# Altium integrated library Linear Technology Power Management LDO Linear Regulators.IntLib: 2339 symbols (part 1 of 131)
Pins are listed as number, name and electrical type; pins without a type are passive.

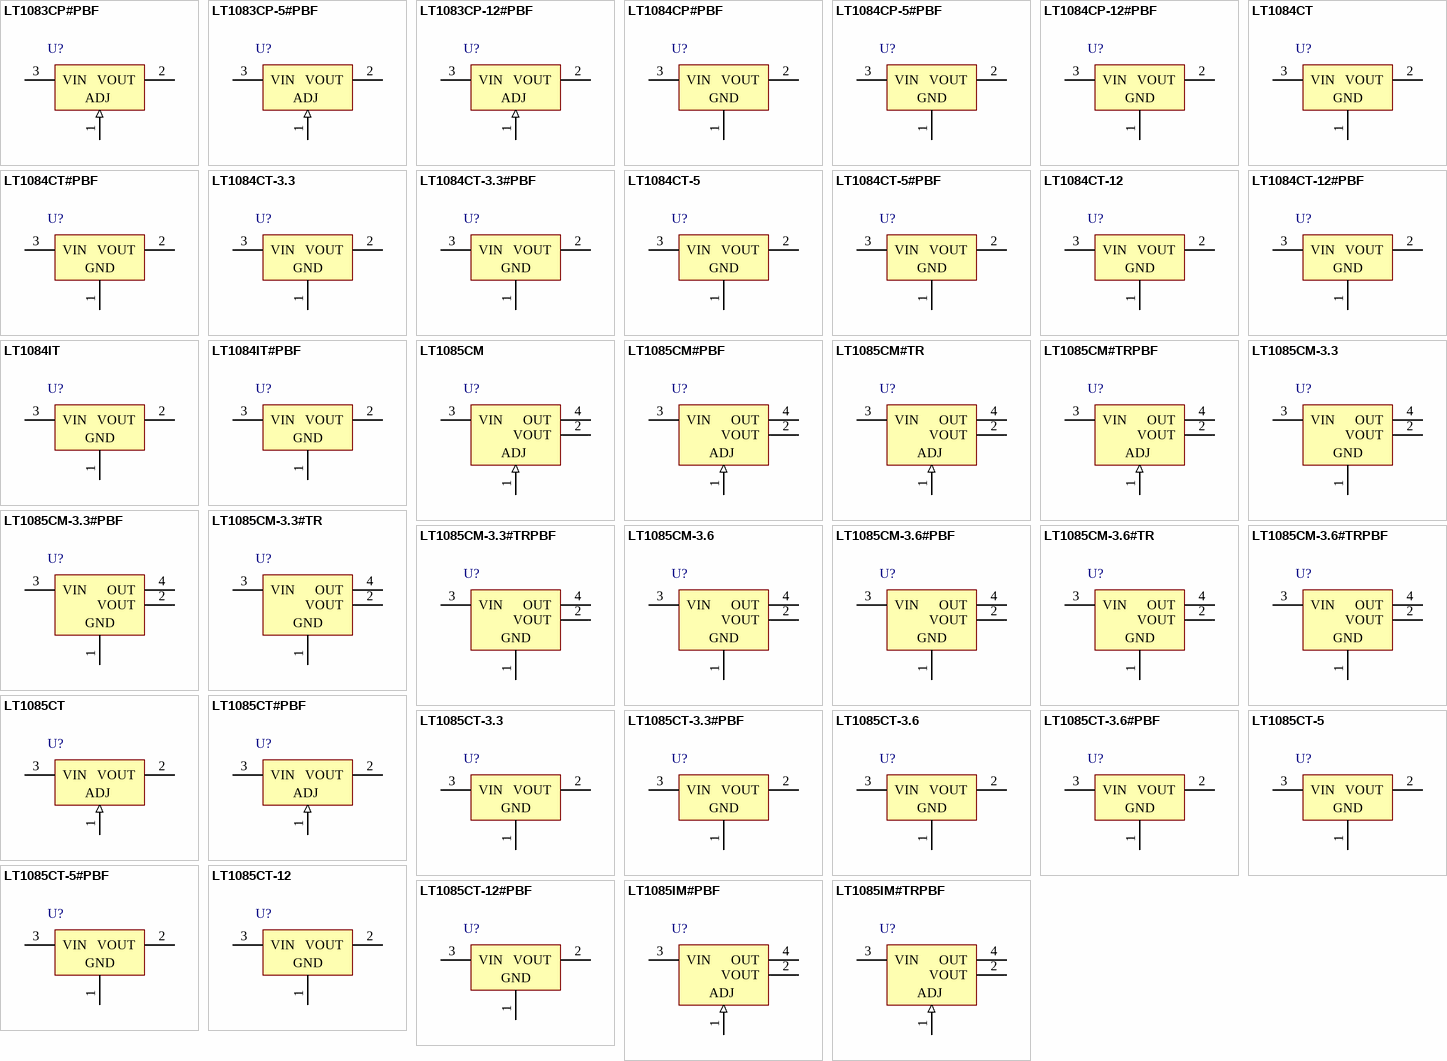
[diagram p0: symbols LT1083CP#PBF to LT1085IM#TRPBF]

## LT1083CP#PBF
designator U?
7.5 A Low Dropout Positive Regulator, 2.55 to 30 V Vin, Adjustable Vout, 3-pin FM (P-3), 0 to 150 degC, Pb-Free; Manufacturer: Linear Technology; PartNumber: LT1083CP#PBF; Discrete Pass Element: no; Dropout Voltage(V): 1.3; Iout(mA): 7500; Isupply(mA): 5; Number of Outputs: 1; Output Voltage: Adj; Vin Max(V): 30; Vin Min(V): 2.55; Vout Max(V): 28.5; Vout Min(V): 1.25; DatasheetVersion: Rev. G; PackageVersion: Rev. A, 06/2012; PackageReference: P-3; PackageDescription: 3-Pin Plastic TO-3P, Body 16.005 x 5.005 mm, Pitch 5.46 mm; Supplier 1: Digi-Key; Supplier Part Number 1: LT1083CP#PBF-ND; Supplier 2: Farnell; Supplier Part Number 2: 9559728; Supplier 3: Newark; Supplier Part Number 3: 57M1484; RoHS: TRUE; Mounting Technology: Through Hole; ComponentLink1Description: Manufacturer URL; ComponentLink1URL: http://www.linear.com/; ComponentLink2Description: Datasheet; ComponentLink2URL: http://cds.linear.com/docs/en/datasheet/108345fg.pdf; ComponentLink3Description: Package Specification; ComponentLink3URL: http://cds.linear.com/docs/en/packaging/P3(TO-3P)%2005-08-1450%20Rev%20A.pdf
footprint LT-P-3-S-TO-247 (FM, 3-Leads, Body 16.3x5.3mm, Pitch 5.46mm)
pins: 1 ADJ (in), 2 VOUT (power), 3 VIN (power)

## LT1083CP-5#PBF
designator U?
7.5 A Low Dropout Positive Regulator, 6 to 25 V Vin, 5 V Vout, 3-pin FM (P-3), 0 to 150 degC, Pb-Free; Manufacturer: Linear Technology; PartNumber: LT1083CP-5#PBF; Discrete Pass Element: no; Dropout Voltage(V): 1.3; Iout(mA): 7500; Isupply(mA): 5; Number of Outputs: 1; Output Voltage: 5 V; Vin Max(V): 25; Vin Min(V): 6; DatasheetVersion: Rev. G; PackageVersion: Rev. A, 06/2012; PackageReference: P-3; PackageDescription: 3-Pin Plastic TO-3P, Body 16.005 x 5.005 mm, Pitch 5.46 mm; Supplier 1: Digi-Key; Supplier Part Number 1: LT1083CP-5#PBF-ND; Supplier 2: Farnell; Supplier Part Number 2: 1273558; Supplier 3: Newark; Supplier Part Number 3: 57M1483; RoHS: TRUE; Vout Max(V): 5; Vout Min(V): 5; Mounting Technology: Through Hole; ComponentLink1Description: Manufacturer URL; ComponentLink1URL: http://www.linear.com/; ComponentLink2Description: Datasheet; ComponentLink2URL: http://cds.linear.com/docs/en/datasheet/108345fg.pdf; ComponentLink3Description: Package Specification; ComponentLink3URL: http://cds.linear.com/docs/en/packaging/P3(TO-3P)%2005-08-1450%20Rev%20A.pdf
footprint LT-P-3-S-TO-247 (FM, 3-Leads, Body 16.3x5.3mm, Pitch 5.46mm)
pins: 1 ADJ (in), 2 VOUT (power), 3 VIN (power)

## LT1083CP-12#PBF
designator U?
7.5 A Low Dropout Positive Regulator, 6 to 25 V Vin, 12 V Vout, 3-pin FM (P-3), 0 to 150 degC, Pb-Free; Manufacturer: Linear Technology; PartNumber: LT1083CP-12#PBF; Discrete Pass Element: no; Dropout Voltage(V): 1.3; Iout(mA): 7500; Isupply(mA): 5; Number of Outputs: 1; Output Voltage: 12 V; Vin Max(V): 25; Vin Min(V): 6; Vout Max(V): 12; DatasheetVersion: Rev. G; PackageVersion: Rev. A, 06/2012; PackageReference: P-3; PackageDescription: 3-Pin Plastic TO-3P, Body 16.005 x 5.005 mm, Pitch 5.46 mm; Supplier 1: Digi-Key; Supplier Part Number 1: LT1083CP-12#PBF-ND; Supplier 2: Newark; Supplier Part Number 2: 57M1481; RoHS: TRUE; Vout Min(V): 12; Mounting Technology: Through Hole; ComponentLink1Description: Manufacturer URL; ComponentLink1URL: http://www.linear.com/; ComponentLink2Description: Datasheet; ComponentLink2URL: http://cds.linear.com/docs/en/datasheet/108345fg.pdf; ComponentLink3Description: Package Specification; ComponentLink3URL: http://cds.linear.com/docs/en/packaging/P3(TO-3P)%2005-08-1450%20Rev%20A.pdf
footprint LT-P-3-S-TO-247 (FM, 3-Leads, Body 16.3x5.3mm, Pitch 5.46mm)
pins: 1 ADJ (in), 2 VOUT (power), 3 VIN (power)

## LT1084CP#PBF
designator U?
5 A Low Dropout Positive Regulator, 2.55 to 30 V Vin, Adjustable Vout, 3-pin FM (P-3), 0 to 150 degC, Pb-Free; Manufacturer: Linear Technology; PartNumber: LT1084CP#PBF; Discrete Pass Element: no; Dropout Voltage(V): 1.3; Iout(mA): 5000; Isupply(mA): 5; Number of Outputs: 1; Output Voltage: Adj; PSRR(dB): 75; Vin Max(V): 30; Vin Min(V): 2.55; Vout Max(V): 28.5; Vout Min(V): 1.25; DatasheetVersion: Rev. D; PackageVersion: Rev. A, 06/2012; PackageReference: P-3; PackageDescription: 3-Pin Plastic TO-3P, Body 16.005 x 5.005 mm, Pitch 5.46 mm; Supplier 1: Digi-Key; Supplier Part Number 1: LT1084CP#PBF-ND; Supplier 2: Farnell; Supplier Part Number 2: 1273559; Supplier 3: Newark; Supplier Part Number 3: 57M1490; RoHS: TRUE; Mounting Technology: Through Hole; ComponentLink1Description: Manufacturer URL; ComponentLink1URL: http://www.linear.com/; ComponentLink2Description: Datasheet; ComponentLink2URL: http://cds.linear.com/docs/en/datasheet/1083ffd.pdf; ComponentLink3Description: Package Specification; ComponentLink3URL: http://cds.linear.com/docs/en/packaging/P3(TO-3P)%2005-08-1450%20Rev%20A.pdf
footprint LT-P-3-S-TO-247 (FM, 3-Leads, Body 16.3x5.3mm, Pitch 5.46mm)
pins: 1 GND (power), 2 VOUT (power), 3 VIN (power)

## LT1084CP-5#PBF
designator U?
5 A Low Dropout Positive Regulator, 2.55 to 30 V Vin, 5 V Vout, 3-pin FM (P-3), 0 to 125 degC, Pb-Free; Manufacturer: Linear Technology; PartNumber: LT1084CP-5#PBF; Discrete Pass Element: no; Dropout Voltage(V): 1.3; Iout(mA): 5000; Isupply(mA): 5; Number of Outputs: 1; Output Voltage: 5 V; PSRR(dB): 68; Vin Max(V): 30; Vin Min(V): 2.55; DatasheetVersion: Rev. D; PackageVersion: Rev. A, 06/2012; PackageReference: P-3; PackageDescription: 3-Pin Plastic TO-3P, Body 16.005 x 5.005 mm, Pitch 5.46 mm; Supplier 1: Digi-Key; Supplier Part Number 1: LT1084CP-5#PBF-ND; Supplier 2: Farnell; Supplier Part Number 2: 2295195; Supplier 3: Newark; Supplier Part Number 3: 57M1489; RoHS: TRUE; Mounting Technology: Through Hole; ComponentLink1Description: Manufacturer URL; ComponentLink1URL: http://www.linear.com/; ComponentLink2Description: Datasheet; ComponentLink2URL: http://cds.linear.com/docs/en/datasheet/1083ffd.pdf; ComponentLink3Description: Package Specification; ComponentLink3URL: http://cds.linear.com/docs/en/packaging/P3(TO-3P)%2005-08-1450%20Rev%20A.pdf
footprint LT-P-3-S-TO-247 (FM, 3-Leads, Body 16.3x5.3mm, Pitch 5.46mm)
pins: 1 GND (power), 2 VOUT (power), 3 VIN (power)

## LT1084CP-12#PBF
designator U?
5 A Low Dropout Positive Regulator, 2.55 to 30 V Vin, 12 V Vout, 3-pin FM (P-3), 0 to 150 degC, Pb-Free; Manufacturer: Linear Technology; PartNumber: LT1084CP-12#PBF; Discrete Pass Element: no; Dropout Voltage(V): 1.3; Iout(mA): 5000; Isupply(mA): 5; Number of Outputs: 1; Output Voltage: 12 V; PSRR(dB): 60; Vin Max(V): 30; Vin Min(V): 2.55; DatasheetVersion: Rev. D; PackageVersion: Rev. A, 06/2012; PackageReference: P-3; PackageDescription: 3-Pin Plastic TO-3P, Body 16.005 x 5.005 mm, Pitch 5.46 mm; Supplier 1: Digi-Key; Supplier Part Number 1: LT1084CP-12#PBF-ND; Supplier 2: Newark; Supplier Part Number 2: 57M1487; RoHS: TRUE; Mounting Technology: Through Hole; ComponentLink1Description: Manufacturer URL; ComponentLink1URL: http://www.linear.com/; ComponentLink2Description: Datasheet; ComponentLink2URL: http://cds.linear.com/docs/en/datasheet/1083ffd.pdf; ComponentLink3Description: Package Specification; ComponentLink3URL: http://cds.linear.com/docs/en/packaging/P3(TO-3P)%2005-08-1450%20Rev%20A.pdf
footprint LT-P-3-S-TO-247 (FM, 3-Leads, Body 16.3x5.3mm, Pitch 5.46mm)
pins: 1 GND (power), 2 VOUT (power), 3 VIN (power)

## LT1084CT
designator U?
5 A Low Dropout Positive Regulator, 2.55 to 30 V Vin, Adjustable Vout, 3-pin FM (T-3), 0 to 150 degC; Manufacturer: Linear Technology; PartNumber: LT1084CT; Discrete Pass Element: no; Dropout Voltage(V): 1.3; Iout(mA): 5000; Isupply(mA): 5; Number of Outputs: 1; Output Voltage: Adj; PSRR(dB): 75; Vin Max(V): 30; Vin Min(V): 2.55; Vout Max(V): 28.5; Vout Min(V): 1.25; DatasheetVersion: Rev. D; PackageVersion: Jun-10; PackageReference: T-3; PackageDescription: 3-Pin Plastic TO-220, Body 10.2235 x 4.3815 mm, Pitch 2.54 mm; Supplier 1: Digi-Key; Supplier Part Number 1: LT1084CT-ND; Supplier 2: Newark; Supplier Part Number 2: 57M1491; RoHS: FALSE; Mounting Technology: Through Hole; ComponentLink1Description: Manufacturer URL; ComponentLink1URL: http://www.linear.com/; ComponentLink2Description: Datasheet; ComponentLink2URL: http://cds.linear.com/docs/en/datasheet/1083ffd.pdf; ComponentLink3Description: Package Specification; ComponentLink3URL: http://cds.linear.com/docs/en/packaging/TO-220_3_05-08-1420.pdf
footprint LT-T-3 (T, 3-Leads, Body 10.55x4.6mm, Pitch 2.54mm)
pins: 1 GND (power), 2 VOUT (power), 3 VIN (power)

## LT1084CT#PBF
designator U?
5 A Low Dropout Positive Regulator, 2.55 to 30 V Vin, Adjustable Vout, 3-pin FM (T-3), 0 to 150 degC, Pb-Free; Manufacturer: Linear Technology; PartNumber: LT1084CT#PBF; Discrete Pass Element: no; Dropout Voltage(V): 1.3; Iout(mA): 5000; Isupply(mA): 5; Number of Outputs: 1; Output Voltage: Adj; PSRR(dB): 75; Vin Max(V): 30; Vin Min(V): 2.55; Vout Max(V): 28.5; Vout Min(V): 1.25; DatasheetVersion: Rev. D; PackageVersion: Jun-10; PackageReference: T-3; PackageDescription: 3-Pin Plastic TO-220, Body 10.2235 x 4.3815 mm, Pitch 2.54 mm; Supplier 1: Digi-Key; Supplier Part Number 1: LT1084CT#PBF-ND; Supplier 2: Farnell; Supplier Part Number 2: 9559744; Supplier 3: Newark; Supplier Part Number 3: 57M1498; RoHS: TRUE; Mounting Technology: Through Hole; ComponentLink1Description: Manufacturer URL; ComponentLink1URL: http://www.linear.com/; ComponentLink2Description: Datasheet; ComponentLink2URL: http://cds.linear.com/docs/en/datasheet/1083ffd.pdf; ComponentLink3Description: Package Specification; ComponentLink3URL: http://cds.linear.com/docs/en/packaging/TO-220_3_05-08-1420.pdf
footprint LT-T-3 (T, 3-Leads, Body 10.55x4.6mm, Pitch 2.54mm)
pins: 1 GND (power), 2 VOUT (power), 3 VIN (power)

## LT1084CT-3.3
designator U?
5 A Low Dropout Positive Regulator, 2.55 to 30 V Vin, 3.3 V Vout, 3-pin FM (T-3), 0 to 150 degC; Manufacturer: Linear Technology; PartNumber: LT1084CT-3.3; Discrete Pass Element: no; Dropout Voltage(V): 1.3; Iout(mA): 5000; Isupply(mA): 5; Number of Outputs: 1; Output Voltage: 3.3 V; PSRR(dB): 72; Vin Max(V): 30; Vin Min(V): 2.55; DatasheetVersion: Rev. D; PackageVersion: Jun-10; PackageReference: T-3; PackageDescription: 3-Pin Plastic TO-220, Body 10.2235 x 4.3815 mm, Pitch 2.54 mm; Supplier 1: Digi-Key; Supplier Part Number 1: LT1084CT-3.3-ND; Supplier 2: Newark; Supplier Part Number 2: 57M1494; RoHS: FALSE; Mounting Technology: Through Hole; ComponentLink1Description: Manufacturer URL; ComponentLink1URL: http://www.linear.com/; ComponentLink2Description: Datasheet; ComponentLink2URL: http://cds.linear.com/docs/en/datasheet/1083ffd.pdf; ComponentLink3Description: Package Specification; ComponentLink3URL: http://cds.linear.com/docs/en/packaging/TO-220_3_05-08-1420.pdf
footprint LT-T-3 (T, 3-Leads, Body 10.55x4.6mm, Pitch 2.54mm)
pins: 1 GND (power), 2 VOUT (power), 3 VIN (power)

## LT1084CT-3.3#PBF
designator U?
5 A Low Dropout Positive Regulator, 2.55 to 30 V Vin, 3.3 V Vout, 3-pin FM (T-3), 0 to 150 degC, Pb-Free; Manufacturer: Linear Technology; PartNumber: LT1084CT-3.3#PBF; Discrete Pass Element: no; Dropout Voltage(V): 1.3; Iout(mA): 5000; Isupply(mA): 5; Number of Outputs: 1; Output Voltage: 3.3 V; PSRR(dB): 72; Vin Max(V): 30; Vin Min(V): 2.55; DatasheetVersion: Rev. D; PackageVersion: Jun-10; PackageReference: T-3; PackageDescription: 3-Pin Plastic TO-220, Body 10.2235 x 4.3815 mm, Pitch 2.54 mm; Supplier 1: Digi-Key; Supplier Part Number 1: LT1084CT-3.3#PBF-ND; Supplier 2: Newark; Supplier Part Number 2: 57M1495; RoHS: TRUE; Mounting Technology: Through Hole; ComponentLink1Description: Manufacturer URL; ComponentLink1URL: http://www.linear.com/; ComponentLink2Description: Datasheet; ComponentLink2URL: http://cds.linear.com/docs/en/datasheet/1083ffd.pdf; ComponentLink3Description: Package Specification; ComponentLink3URL: http://cds.linear.com/docs/en/packaging/TO-220_3_05-08-1420.pdf
footprint LT-T-3 (T, 3-Leads, Body 10.55x4.6mm, Pitch 2.54mm)
pins: 1 GND (power), 2 VOUT (power), 3 VIN (power)

## LT1084CT-5
designator U?
5 A Low Dropout Positive Regulator, 2.55 to 30 V Vin, 5 V Vout, 3-pin FM (T-3), 0 to 150 degC; Manufacturer: Linear Technology; PartNumber: LT1084CT-5; Discrete Pass Element: no; Dropout Voltage(V): 1.3; Iout(mA): 5000; Isupply(mA): 5; Number of Outputs: 1; Output Voltage: 5 V; PSRR(dB): 68; Vin Max(V): 30; Vin Min(V): 2.55; DatasheetVersion: Rev. D; PackageVersion: Jun-10; PackageReference: T-3; PackageDescription: 3-Pin Plastic TO-220, Body 10.2235 x 4.3815 mm, Pitch 2.54 mm; Supplier 1: Digi-Key; Supplier Part Number 1: LT1084CT-5-ND; RoHS: FALSE; Mounting Technology: Through Hole; ComponentLink1Description: Manufacturer URL; ComponentLink1URL: http://www.linear.com/; ComponentLink2Description: Datasheet; ComponentLink2URL: http://cds.linear.com/docs/en/datasheet/1083ffd.pdf; ComponentLink3Description: Package Specification; ComponentLink3URL: http://cds.linear.com/docs/en/packaging/TO-220_3_05-08-1420.pdf
footprint LT-T-3 (T, 3-Leads, Body 10.55x4.6mm, Pitch 2.54mm)
pins: 1 GND (power), 2 VOUT (power), 3 VIN (power)

## LT1084CT-5#PBF
designator U?
5 A Low Dropout Positive Regulator, 2.55 to 30 V Vin, 5 V Vout, 3-pin FM (T-3), 0 to 150 degC, Pb-Free; Manufacturer: Linear Technology; PartNumber: LT1084CT-5#PBF; Discrete Pass Element: no; Dropout Voltage(V): 1.3; Iout(mA): 5000; Isupply(mA): 5; Number of Outputs: 1; Output Voltage: 5 V; PSRR(dB): 68; Vin Max(V): 30; Vin Min(V): 2.55; DatasheetVersion: Rev. D; PackageVersion: Jun-10; PackageReference: T-3; PackageDescription: 3-Pin Plastic TO-220, Body 10.2235 x 4.3815 mm, Pitch 2.54 mm; Supplier 1: Digi-Key; Supplier Part Number 1: LT1084CT-5#PBF-ND; Supplier 2: Farnell; Supplier Part Number 2: 9559787; Supplier 3: Newark; Supplier Part Number 3: 57M1497; RoHS: TRUE; Mounting Technology: Through Hole; ComponentLink1Description: Manufacturer URL; ComponentLink1URL: http://www.linear.com/; ComponentLink2Description: Datasheet; ComponentLink2URL: http://cds.linear.com/docs/en/datasheet/1083ffd.pdf; ComponentLink3Description: Package Specification; ComponentLink3URL: http://cds.linear.com/docs/en/packaging/TO-220_3_05-08-1420.pdf
footprint LT-T-3 (T, 3-Leads, Body 10.55x4.6mm, Pitch 2.54mm)
pins: 1 GND (power), 2 VOUT (power), 3 VIN (power)

## LT1084CT-12
designator U?
5 A Low Dropout Positive Regulator, 2.55 to 30 V Vin, 12 V Vout, 3-pin FM (T-3), 0 to 150 degC; Manufacturer: Linear Technology; PartNumber: LT1084CT-12; Discrete Pass Element: no; Dropout Voltage(V): 1.3; Iout(mA): 5000; Isupply(mA): 5; Number of Outputs: 1; Output Voltage: 12 V; PSRR(dB): 60; Vin Max(V): 30; Vin Min(V): 2.55; DatasheetVersion: Rev. D; PackageVersion: Jun-10; PackageReference: T-3; PackageDescription: 3-Pin Plastic TO-220, Body 10.2235 x 4.3815 mm, Pitch 2.54 mm; Supplier 1: Digi-Key; Supplier Part Number 1: LT1084CT-12-ND; RoHS: FALSE; Mounting Technology: Through Hole; ComponentLink1Description: Manufacturer URL; ComponentLink1URL: http://www.linear.com/; ComponentLink2Description: Datasheet; ComponentLink2URL: http://cds.linear.com/docs/en/datasheet/1083ffd.pdf; ComponentLink3Description: Package Specification; ComponentLink3URL: http://cds.linear.com/docs/en/packaging/TO-220_3_05-08-1420.pdf
footprint LT-T-3 (T, 3-Leads, Body 10.55x4.6mm, Pitch 2.54mm)
pins: 1 GND (power), 2 VOUT (power), 3 VIN (power)

## LT1084CT-12#PBF
designator U?
5 A Low Dropout Positive Regulator, 2.55 to 30 V Vin, 12 V Vout, 3-pin FM (T-3), 0 to 150 degC, Pb-Free; Manufacturer: Linear Technology; PartNumber: LT1084CT-12#PBF; Discrete Pass Element: no; Dropout Voltage(V): 1.3; Iout(mA): 5000; Isupply(mA): 5; Number of Outputs: 1; Output Voltage: 12 V; PSRR(dB): 60; Vin Max(V): 30; Vin Min(V): 2.55; DatasheetVersion: Rev. D; PackageVersion: Jun-10; PackageReference: T-3; PackageDescription: 3-Pin Plastic TO-220, Body 10.2235 x 4.3815 mm, Pitch 2.54 mm; Supplier 1: Digi-Key; Supplier Part Number 1: LT1084CT-12#PBF-ND; Supplier 2: Farnell; Supplier Part Number 2: 9559760; Supplier 3: Newark; Supplier Part Number 3: 57M1493; RoHS: TRUE; Mounting Technology: Through Hole; ComponentLink1Description: Manufacturer URL; ComponentLink1URL: http://www.linear.com/; ComponentLink2Description: Datasheet; ComponentLink2URL: http://cds.linear.com/docs/en/datasheet/1083ffd.pdf; ComponentLink3Description: Package Specification; ComponentLink3URL: http://cds.linear.com/docs/en/packaging/TO-220_3_05-08-1420.pdf
footprint LT-T-3 (T, 3-Leads, Body 10.55x4.6mm, Pitch 2.54mm)
pins: 1 GND (power), 2 VOUT (power), 3 VIN (power)

## LT1084IT
designator U?
5 A Low Dropout Positive Regulator, 2.55 to 30 V Vin, Adjustable Vout, 3-pin FM (T-3), -40 to 150 degC; Manufacturer: Linear Technology; PartNumber: LT1084IT; Discrete Pass Element: no; Dropout Voltage(V): 1.3; Iout(mA): 5000; Isupply(mA): 5; Number of Outputs: 1; Output Voltage: Adj; PSRR(dB): 75; Vin Max(V): 30; Vin Min(V): 2.55; Vout Max(V): 28.5; Vout Min(V): 1.25; DatasheetVersion: Rev. D; PackageVersion: Jun-10; PackageReference: T-3; PackageDescription: 3-Pin Plastic TO-220, Body 10.2235 x 4.3815 mm, Pitch 2.54 mm; Supplier 1: Digi-Key; Supplier Part Number 1: LT1084IT-ND; RoHS: FALSE; Mounting Technology: Through Hole; ComponentLink1Description: Manufacturer URL; ComponentLink1URL: http://www.linear.com/; ComponentLink2Description: Datasheet; ComponentLink2URL: http://cds.linear.com/docs/en/datasheet/1083ffd.pdf; ComponentLink3Description: Package Specification; ComponentLink3URL: http://cds.linear.com/docs/en/packaging/TO-220_3_05-08-1420.pdf
footprint LT-T-3 (T, 3-Leads, Body 10.55x4.6mm, Pitch 2.54mm)
pins: 1 GND (power), 2 VOUT (power), 3 VIN (power)

## LT1084IT#PBF
designator U?
5 A Low Dropout Positive Regulator, 2.55 to 30 V Vin, Adjustable Vout, 3-pin FM (T-3), -40 to 150 degC, Pb-Free; Manufacturer: Linear Technology; PartNumber: LT1084IT#PBF; Discrete Pass Element: no; Dropout Voltage(V): 1.3; Iout(mA): 5000; Isupply(mA): 5; Number of Outputs: 1; Output Voltage: Adj; PSRR(dB): 75; Vin Max(V): 30; Vin Min(V): 2.55; Vout Max(V): 28.5; Vout Min(V): 1.25; DatasheetVersion: Rev. D; PackageVersion: Jun-10; PackageReference: T-3; PackageDescription: 3-Pin Plastic TO-220, Body 10.2235 x 4.3815 mm, Pitch 2.54 mm; Supplier 1: Digi-Key; Supplier Part Number 1: LT1084IT#PBF-ND; Supplier 2: Farnell; Supplier Part Number 2: 1663349; Supplier 3: Newark; Supplier Part Number 3: 57M1500; RoHS: TRUE; Mounting Technology: Through Hole; ComponentLink1Description: Manufacturer URL; ComponentLink1URL: http://www.linear.com/; ComponentLink2Description: Datasheet; ComponentLink2URL: http://cds.linear.com/docs/en/datasheet/1083ffd.pdf; ComponentLink3Description: Package Specification; ComponentLink3URL: http://cds.linear.com/docs/en/packaging/TO-220_3_05-08-1420.pdf
footprint LT-T-3 (T, 3-Leads, Body 10.55x4.6mm, Pitch 2.54mm)
pins: 1 GND (power), 2 VOUT (power), 3 VIN (power)

## LT1085CM
designator U?
3 A Low Dropout Positive Regulator, 2.55 to 30 V Vin, Adjustable Vout, 3-pin DPAK (M-3), 0 to 150 degC; Manufacturer: Linear Technology; PartNumber: LT1085CM; Discrete Pass Element: no; Dropout Voltage(V): 1.3; Iout(mA): 3000; Isupply(mA): 5; Number of Outputs: 1; Output Voltage: Adj; PSRR(dB): 75; Vin Max(V): 30; Vin Min(V): 2.55; Vout Max(V): 28.5; Vout Min(V): 1.25; DatasheetVersion: Rev. G; PackageVersion: Rev. F, 05/2012; PackageReference: M-3; PackageDescription: 3-Pin Plastic DD Pak, Body 10.2235 x 8.89 mm, Pitch 2.54 mm; Supplier 1: Digi-Key; Supplier Part Number 1: LT1085CM-ND; Supplier 2: Newark; Supplier Part Number 2: 57M1501; RoHS: FALSE; Mounting Technology: Surface Mount; ComponentLink1Description: Manufacturer URL; ComponentLink1URL: http://www.linear.com/; ComponentLink2Description: Datasheet; ComponentLink2URL: http://cds.linear.com/docs/en/datasheet/108345fg.pdf; ComponentLink3Description: Package Specification; ComponentLink3URL: http://cds.linear.com/docs/en/packaging/05081460_F_M.pdf
footprint LT-M-3_N (DPAK, 3-Leads, Body 10.55x9.4mm, Pitch 2.54mm, IPC Medium Density)
footprint LT-M-3_L (DPAK, 3-Leads, Body 10.55x9.4mm, Pitch 2.54mm, IPC High Density)
footprint LT-M-3_M (DPAK, 3-Leads, Body 10.55x9.4mm, Pitch 2.54mm, IPC Low Density)
pins: 1 ADJ (in), 2 VOUT (power), 3 VIN (power), 4 OUT (power)

## LT1085CM#PBF
designator U?
3 A Low Dropout Positive Regulator, 2.55 to 30 V Vin, Adjustable Vout, 3-pin DPAK (M-3), 0 to 150 degC, Pb-Free; Manufacturer: Linear Technology; PartNumber: LT1085CM#PBF; Discrete Pass Element: no; Dropout Voltage(V): 1.3; Iout(mA): 3000; Isupply(mA): 5; Number of Outputs: 1; Output Voltage: Adj; PSRR(dB): 75; Vin Max(V): 30; Vin Min(V): 2.55; Vout Max(V): 28.5; Vout Min(V): 1.25; DatasheetVersion: Rev. G; PackageVersion: Rev. F, 05/2012; PackageReference: M-3; PackageDescription: 3-Pin Plastic DD Pak, Body 10.2235 x 8.89 mm, Pitch 2.54 mm; Supplier 1: Digi-Key; Supplier Part Number 1: LT1085CM#PBF-ND; Supplier 2: Farnell; Supplier Part Number 2: 9559795; Supplier 3: Newark; Supplier Part Number 3: 57M1510; RoHS: TRUE; Mounting Technology: Surface Mount; ComponentLink1Description: Manufacturer URL; ComponentLink1URL: http://www.linear.com/; ComponentLink2Description: Datasheet; ComponentLink2URL: http://cds.linear.com/docs/en/datasheet/108345fg.pdf; ComponentLink3Description: Package Specification; ComponentLink3URL: http://cds.linear.com/docs/en/packaging/05081460_F_M.pdf
footprint LT-M-3_N (DPAK, 3-Leads, Body 10.55x9.4mm, Pitch 2.54mm, IPC Medium Density)
footprint LT-M-3_L (DPAK, 3-Leads, Body 10.55x9.4mm, Pitch 2.54mm, IPC High Density)
footprint LT-M-3_M (DPAK, 3-Leads, Body 10.55x9.4mm, Pitch 2.54mm, IPC Low Density)
pins: 1 ADJ (in), 2 VOUT (power), 3 VIN (power), 4 OUT (power)

## LT1085CM#TR
designator U?
3 A Low Dropout Positive Regulator, 2.55 to 30 V Vin, Adjustable Vout, 3-pin DPAK (M-3), 0 to 150 degC, Tape and Reel; Manufacturer: Linear Technology; PartNumber: LT1085CM#TR; Discrete Pass Element: no; Dropout Voltage(V): 1.3; Iout(mA): 3000; Isupply(mA): 5; Number of Outputs: 1; Output Voltage: Adj; PSRR(dB): 75; Vin Max(V): 30; Vin Min(V): 2.55; Vout Max(V): 28.5; Vout Min(V): 1.25; DatasheetVersion: Rev. G; PackageVersion: Rev. F, 05/2012; PackageReference: M-3; PackageDescription: 3-Pin Plastic DD Pak, Body 10.2235 x 8.89 mm, Pitch 2.54 mm; Supplier 1: Digi-Key; Supplier Part Number 1: LT1085CM#TR-ND; Supplier 2: Newark; Supplier Part Number 2: 57M1511; Packing: Tape and Reel; RoHS: FALSE; Mounting Technology: Surface Mount; ComponentLink1Description: Manufacturer URL; ComponentLink1URL: http://www.linear.com/; ComponentLink2Description: Datasheet; ComponentLink2URL: http://cds.linear.com/docs/en/datasheet/108345fg.pdf; ComponentLink3Description: Package Specification; ComponentLink3URL: http://cds.linear.com/docs/en/packaging/05081460_F_M.pdf
footprint LT-M-3_N (DPAK, 3-Leads, Body 10.55x9.4mm, Pitch 2.54mm, IPC Medium Density)
footprint LT-M-3_L (DPAK, 3-Leads, Body 10.55x9.4mm, Pitch 2.54mm, IPC High Density)
footprint LT-M-3_M (DPAK, 3-Leads, Body 10.55x9.4mm, Pitch 2.54mm, IPC Low Density)
pins: 1 ADJ (in), 2 VOUT (power), 3 VIN (power), 4 OUT (power)

## LT1085CM#TRPBF
designator U?
3 A Low Dropout Positive Regulator, 2.55 to 30 V Vin, Adjustable Vout, 3-pin DPAK (M-3), 0 to 150 degC, Pb-Free, Tape and Reel; Manufacturer: Linear Technology; PartNumber: LT1085CM#TRPBF; Discrete Pass Element: no; Dropout Voltage(V): 1.3; Iout(mA): 3000; Isupply(mA): 5; Number of Outputs: 1; Output Voltage: Adj; PSRR(dB): 75; Vin Max(V): 30; Vin Min(V): 2.55; Vout Max(V): 28.5; Vout Min(V): 1.25; DatasheetVersion: Rev. G; PackageVersion: Rev. F, 05/2012; PackageReference: M-3; PackageDescription: 3-Pin Plastic DD Pak, Body 10.2235 x 8.89 mm, Pitch 2.54 mm; Supplier 1: Digi-Key; Supplier Part Number 1: LT1085CM#TRPBF-ND; Supplier 2: Newark; Supplier Part Number 2: 57M1512; Packing: Tape and Reel; RoHS: TRUE; Mounting Technology: Surface Mount; ComponentLink1Description: Manufacturer URL; ComponentLink1URL: http://www.linear.com/; ComponentLink2Description: Datasheet; ComponentLink2URL: http://cds.linear.com/docs/en/datasheet/108345fg.pdf; ComponentLink3Description: Package Specification; ComponentLink3URL: http://cds.linear.com/docs/en/packaging/05081460_F_M.pdf
footprint LT-M-3_N (DPAK, 3-Leads, Body 10.55x9.4mm, Pitch 2.54mm, IPC Medium Density)
footprint LT-M-3_L (DPAK, 3-Leads, Body 10.55x9.4mm, Pitch 2.54mm, IPC High Density)
footprint LT-M-3_M (DPAK, 3-Leads, Body 10.55x9.4mm, Pitch 2.54mm, IPC Low Density)
pins: 1 ADJ (in), 2 VOUT (power), 3 VIN (power), 4 OUT (power)

## LT1085CM-3.3
designator U?
3 A Low Dropout Positive Regulator, 4.3 to 25 V Vin, 3.3 V Vout, 3-pin DPAK (M-3), 0 to 150 degC; Manufacturer: Linear Technology; PartNumber: LT1085CM-3.3; Discrete Pass Element: no; Dropout Voltage(V): 1.3; Iout(mA): 3000; Isupply(mA): 5; Number of Outputs: 1; Output Voltage: 3.3 V; PSRR(dB): 72; Vin Max(V): 25; Vin Min(V): 4.3; DatasheetVersion: Rev. D; PackageVersion: Rev. F, 05/2012; PackageReference: M-3; PackageDescription: 3-Pin Plastic DD Pak, Body 10.2235 x 8.89 mm, Pitch 2.54 mm; Supplier 1: Digi-Key; Supplier Part Number 1: LT1085CM-3.3-ND; RoHS: FALSE; Mounting Technology: Surface Mount; ComponentLink1Description: Manufacturer URL; ComponentLink1URL: http://www.linear.com/; ComponentLink2Description: Datasheet; ComponentLink2URL: http://cds.linear.com/docs/en/datasheet/1083ffd.pdf; ComponentLink3Description: Package Specification; ComponentLink3URL: http://cds.linear.com/docs/en/packaging/05081460_F_M.pdf
footprint LT-M-3_N (DPAK, 3-Leads, Body 10.55x9.4mm, Pitch 2.54mm, IPC Medium Density)
footprint LT-M-3_L (DPAK, 3-Leads, Body 10.55x9.4mm, Pitch 2.54mm, IPC High Density)
footprint LT-M-3_M (DPAK, 3-Leads, Body 10.55x9.4mm, Pitch 2.54mm, IPC Low Density)
pins: 1 GND (power), 2 VOUT (power), 3 VIN (power), 4 OUT (power)

## LT1085CM-3.3#PBF
designator U?
3 A Low Dropout Positive Regulator, 4.3 to 25 V Vin, 3.3 V Vout, 3-pin DPAK (M-3), 0 to 150 degC, Pb-Free; Manufacturer: Linear Technology; PartNumber: LT1085CM-3.3#PBF; Discrete Pass Element: no; Dropout Voltage(V): 1.3; Iout(mA): 3000; Isupply(mA): 5; Number of Outputs: 1; Output Voltage: 3.3 V; PSRR(dB): 72; Vin Max(V): 25; Vin Min(V): 4.3; DatasheetVersion: Rev. D; PackageVersion: Rev. F, 05/2012; PackageReference: M-3; PackageDescription: 3-Pin Plastic DD Pak, Body 10.2235 x 8.89 mm, Pitch 2.54 mm; Supplier 1: Digi-Key; Supplier Part Number 1: LT1085CM-3.3#PBF-ND; Supplier 2: Farnell; Supplier Part Number 2: 1273560; Supplier 3: Newark; Supplier Part Number 3: 57M1503; RoHS: TRUE; Mounting Technology: Surface Mount; ComponentLink1Description: Manufacturer URL; ComponentLink1URL: http://www.linear.com/; ComponentLink2Description: Datasheet; ComponentLink2URL: http://cds.linear.com/docs/en/datasheet/1083ffd.pdf; ComponentLink3Description: Package Specification; ComponentLink3URL: http://cds.linear.com/docs/en/packaging/05081460_F_M.pdf
footprint LT-M-3_N (DPAK, 3-Leads, Body 10.55x9.4mm, Pitch 2.54mm, IPC Medium Density)
footprint LT-M-3_L (DPAK, 3-Leads, Body 10.55x9.4mm, Pitch 2.54mm, IPC High Density)
footprint LT-M-3_M (DPAK, 3-Leads, Body 10.55x9.4mm, Pitch 2.54mm, IPC Low Density)
pins: 1 GND (power), 2 VOUT (power), 3 VIN (power), 4 OUT (power)

## LT1085CM-3.3#TR
designator U?
3 A Low Dropout Positive Regulator, 4.3 to 25 V Vin, 3.3 V Vout, 3-pin DPAK (M-3), 0 to 150 degC, Tape and Reel; Manufacturer: Linear Technology; PartNumber: LT1085CM-3.3#TR; Discrete Pass Element: no; Dropout Voltage(V): 1.3; Iout(mA): 3000; Isupply(mA): 5; Number of Outputs: 1; Output Voltage: 3.3 V; PSRR(dB): 72; Vin Max(V): 25; Vin Min(V): 4.3; DatasheetVersion: Rev. D; PackageVersion: Rev. F, 05/2012; PackageReference: M-3; PackageDescription: 3-Pin Plastic DD Pak, Body 10.2235 x 8.89 mm, Pitch 2.54 mm; Supplier 1: Digi-Key; Supplier Part Number 1: LT1085CM-3.3#TR-ND; Supplier 2: Newark; Supplier Part Number 2: 57M1504; Packing: Tape and Reel; RoHS: FALSE; Mounting Technology: Surface Mount; ComponentLink1Description: Manufacturer URL; ComponentLink1URL: http://www.linear.com/; ComponentLink2Description: Datasheet; ComponentLink2URL: http://cds.linear.com/docs/en/datasheet/1083ffd.pdf; ComponentLink3Description: Package Specification; ComponentLink3URL: http://cds.linear.com/docs/en/packaging/05081460_F_M.pdf
footprint LT-M-3_N (DPAK, 3-Leads, Body 10.55x9.4mm, Pitch 2.54mm, IPC Medium Density)
footprint LT-M-3_L (DPAK, 3-Leads, Body 10.55x9.4mm, Pitch 2.54mm, IPC High Density)
footprint LT-M-3_M (DPAK, 3-Leads, Body 10.55x9.4mm, Pitch 2.54mm, IPC Low Density)
pins: 1 GND (power), 2 VOUT (power), 3 VIN (power), 4 OUT (power)

## LT1085CM-3.3#TRPBF
designator U?
3 A Low Dropout Positive Regulator, 4.3 to 25 V Vin, 3.3 V Vout, 3-pin DPAK (M-3), 0 to 150 degC, Pb-Free, Tape and Reel; Manufacturer: Linear Technology; PartNumber: LT1085CM-3.3#TRPBF; Discrete Pass Element: no; Dropout Voltage(V): 1.3; Iout(mA): 3000; Isupply(mA): 5; Number of Outputs: 1; Output Voltage: 3.3 V; PSRR(dB): 72; Vin Max(V): 25; Vin Min(V): 4.3; DatasheetVersion: Rev. D; PackageVersion: Rev. F, 05/2012; PackageReference: M-3; PackageDescription: 3-Pin Plastic DD Pak, Body 10.2235 x 8.89 mm, Pitch 2.54 mm; Supplier 1: Digi-Key; Supplier Part Number 1: LT1085CM-3.3#TRPBF-ND; Supplier 2: Newark; Supplier Part Number 2: 57M1505; Packing: Tape and Reel; RoHS: TRUE; Mounting Technology: Surface Mount; ComponentLink1Description: Manufacturer URL; ComponentLink1URL: http://www.linear.com/; ComponentLink2Description: Datasheet; ComponentLink2URL: http://cds.linear.com/docs/en/datasheet/1083ffd.pdf; ComponentLink3Description: Package Specification; ComponentLink3URL: http://cds.linear.com/docs/en/packaging/05081460_F_M.pdf
footprint LT-M-3_N (DPAK, 3-Leads, Body 10.55x9.4mm, Pitch 2.54mm, IPC Medium Density)
footprint LT-M-3_L (DPAK, 3-Leads, Body 10.55x9.4mm, Pitch 2.54mm, IPC High Density)
footprint LT-M-3_M (DPAK, 3-Leads, Body 10.55x9.4mm, Pitch 2.54mm, IPC Low Density)
pins: 1 GND (power), 2 VOUT (power), 3 VIN (power), 4 OUT (power)

## LT1085CM-3.6
designator U?
3 A Low Dropout Positive Regulator, 4.3 to 25 V Vin, 3.6 V Vout, 3-pin DPAK (M-3), 0 to 150 degC; Manufacturer: Linear Technology; PartNumber: LT1085CM-3.6; Discrete Pass Element: no; Dropout Voltage(V): 1.3; Iout(mA): 3000; Isupply(mA): 5; Number of Outputs: 1; Output Voltage: 3.6 V; PSRR(dB): 72; Vin Max(V): 25; Vin Min(V): 4.3; DatasheetVersion: Rev. D; PackageVersion: Rev. F, 05/2012; PackageReference: M-3; PackageDescription: 3-Pin Plastic DD Pak, Body 10.2235 x 8.89 mm, Pitch 2.54 mm; Supplier 1: Digi-Key; Supplier Part Number 1: LT1085CM-3.6-ND; Supplier 2: Newark; Supplier Part Number 2: 57M1506; RoHS: FALSE; Mounting Technology: Surface Mount; ComponentLink1Description: Manufacturer URL; ComponentLink1URL: http://www.linear.com/; ComponentLink2Description: Datasheet; ComponentLink2URL: http://cds.linear.com/docs/en/datasheet/1083ffd.pdf; ComponentLink3Description: Package Specification; ComponentLink3URL: http://cds.linear.com/docs/en/packaging/05081460_F_M.pdf
footprint LT-M-3_N (DPAK, 3-Leads, Body 10.55x9.4mm, Pitch 2.54mm, IPC Medium Density)
footprint LT-M-3_L (DPAK, 3-Leads, Body 10.55x9.4mm, Pitch 2.54mm, IPC High Density)
footprint LT-M-3_M (DPAK, 3-Leads, Body 10.55x9.4mm, Pitch 2.54mm, IPC Low Density)
pins: 1 GND (power), 2 VOUT (power), 3 VIN (power), 4 OUT (power)

## LT1085CM-3.6#PBF
designator U?
3 A Low Dropout Positive Regulator, 4.3 to 25 V Vin, 3.6 V Vout, 3-pin DPAK (M-3), 0 to 150 degC, Pb-Free; Manufacturer: Linear Technology; PartNumber: LT1085CM-3.6#PBF; Discrete Pass Element: no; Dropout Voltage(V): 1.3; Iout(mA): 3000; Isupply(mA): 5; Number of Outputs: 1; Output Voltage: 3.6 V; PSRR(dB): 72; Vin Max(V): 25; Vin Min(V): 4.3; DatasheetVersion: Rev. D; PackageVersion: Rev. F, 05/2012; PackageReference: M-3; PackageDescription: 3-Pin Plastic DD Pak, Body 10.2235 x 8.89 mm, Pitch 2.54 mm; Supplier 1: Digi-Key; Supplier Part Number 1: LT1085CM-3.6#PBF-ND; Supplier 2: Newark; Supplier Part Number 2: 57M1507; RoHS: TRUE; Mounting Technology: Surface Mount; ComponentLink1Description: Manufacturer URL; ComponentLink1URL: http://www.linear.com/; ComponentLink2Description: Datasheet; ComponentLink2URL: http://cds.linear.com/docs/en/datasheet/1083ffd.pdf; ComponentLink3Description: Package Specification; ComponentLink3URL: http://cds.linear.com/docs/en/packaging/05081460_F_M.pdf
footprint LT-M-3_N (DPAK, 3-Leads, Body 10.55x9.4mm, Pitch 2.54mm, IPC Medium Density)
footprint LT-M-3_L (DPAK, 3-Leads, Body 10.55x9.4mm, Pitch 2.54mm, IPC High Density)
footprint LT-M-3_M (DPAK, 3-Leads, Body 10.55x9.4mm, Pitch 2.54mm, IPC Low Density)
pins: 1 GND (power), 2 VOUT (power), 3 VIN (power), 4 OUT (power)

## LT1085CM-3.6#TR
designator U?
3 A Low Dropout Positive Regulator, 4.3 to 25 V Vin, 3.6 V Vout, 3-pin DPAK (M-3), 0 to 150 degC, Tape and Reel; Manufacturer: Linear Technology; PartNumber: LT1085CM-3.6#TR; Discrete Pass Element: no; Dropout Voltage(V): 1.3; Iout(mA): 3000; Isupply(mA): 5; Number of Outputs: 1; Output Voltage: 3.6 V; PSRR(dB): 72; Vin Max(V): 25; Vin Min(V): 4.3; DatasheetVersion: Rev. D; PackageVersion: Rev. F, 05/2012; PackageReference: M-3; PackageDescription: 3-Pin Plastic DD Pak, Body 10.2235 x 8.89 mm, Pitch 2.54 mm; Supplier 1: Digi-Key; Supplier Part Number 1: LT1085CM-3.6#TR-ND; Packing: Tape and Reel; RoHS: FALSE; Mounting Technology: Surface Mount; ComponentLink1Description: Manufacturer URL; ComponentLink1URL: http://www.linear.com/; ComponentLink2Description: Datasheet; ComponentLink2URL: http://cds.linear.com/docs/en/datasheet/1083ffd.pdf; ComponentLink3Description: Package Specification; ComponentLink3URL: http://cds.linear.com/docs/en/packaging/05081460_F_M.pdf
footprint LT-M-3_N (DPAK, 3-Leads, Body 10.55x9.4mm, Pitch 2.54mm, IPC Medium Density)
footprint LT-M-3_L (DPAK, 3-Leads, Body 10.55x9.4mm, Pitch 2.54mm, IPC High Density)
footprint LT-M-3_M (DPAK, 3-Leads, Body 10.55x9.4mm, Pitch 2.54mm, IPC Low Density)
pins: 1 GND (power), 2 VOUT (power), 3 VIN (power), 4 OUT (power)

## LT1085CM-3.6#TRPBF
designator U?
3 A Low Dropout Positive Regulator, 4.3 to 25 V Vin, 3.6 V Vout, 3-pin DPAK (M-3), 0 to 150 degC, Pb-Free, Tape and Reel; Manufacturer: Linear Technology; PartNumber: LT1085CM-3.6#TRPBF; Discrete Pass Element: no; Dropout Voltage(V): 1.3; Iout(mA): 3000; Isupply(mA): 5; Number of Outputs: 1; Output Voltage: 3.6 V; PSRR(dB): 72; Vin Max(V): 25; Vin Min(V): 4.3; DatasheetVersion: Rev. D; PackageVersion: Rev. F, 05/2012; PackageReference: M-3; PackageDescription: 3-Pin Plastic DD Pak, Body 10.2235 x 8.89 mm, Pitch 2.54 mm; Supplier 1: Digi-Key; Supplier Part Number 1: LT1085CM-3.6#TRPBF-ND; Packing: Tape and Reel; RoHS: TRUE; Mounting Technology: Surface Mount; ComponentLink1Description: Manufacturer URL; ComponentLink1URL: http://www.linear.com/; ComponentLink2Description: Datasheet; ComponentLink2URL: http://cds.linear.com/docs/en/datasheet/1083ffd.pdf; ComponentLink3Description: Package Specification; ComponentLink3URL: http://cds.linear.com/docs/en/packaging/05081460_F_M.pdf
footprint LT-M-3_N (DPAK, 3-Leads, Body 10.55x9.4mm, Pitch 2.54mm, IPC Medium Density)
footprint LT-M-3_L (DPAK, 3-Leads, Body 10.55x9.4mm, Pitch 2.54mm, IPC High Density)
footprint LT-M-3_M (DPAK, 3-Leads, Body 10.55x9.4mm, Pitch 2.54mm, IPC Low Density)
pins: 1 GND (power), 2 VOUT (power), 3 VIN (power), 4 OUT (power)

## LT1085CT
designator U?
3 A Low Dropout Positive Regulator, 2.55 to 30 V Vin, Adjustable Vout, 3-pin FM (T-3), 0 to 150 degC; Manufacturer: Linear Technology; PartNumber: LT1085CT; Discrete Pass Element: no; Dropout Voltage(V): 1.3; Iout(mA): 3000; Isupply(mA): 5; Number of Outputs: 1; Output Voltage: Adj; PSRR(dB): 75; Vin Max(V): 30; Vin Min(V): 2.55; Vout Max(V): 28.5; Vout Min(V): 1.25; DatasheetVersion: Rev. G; PackageVersion: Jun-10; PackageReference: T-3; PackageDescription: 3-Pin Plastic TO-220, Body 10.2235 x 4.3815 mm, Pitch 2.54 mm; Supplier 1: Digi-Key; Supplier Part Number 1: LT1085CT-ND; Supplier 2: Newark; Supplier Part Number 2: 57M1513; RoHS: FALSE; Mounting Technology: Through Hole; ComponentLink1Description: Manufacturer URL; ComponentLink1URL: http://www.linear.com/; ComponentLink2Description: Datasheet; ComponentLink2URL: http://cds.linear.com/docs/en/datasheet/108345fg.pdf; ComponentLink3Description: Package Specification; ComponentLink3URL: http://cds.linear.com/docs/en/packaging/TO-220_3_05-08-1420.pdf
footprint LT-T-3 (T, 3-Leads, Body 10.55x4.6mm, Pitch 2.54mm)
pins: 1 ADJ (in), 2 VOUT (power), 3 VIN (power)

## LT1085CT#PBF
designator U?
3 A Low Dropout Positive Regulator, 2.55 to 30 V Vin, Adjustable Vout, 3-pin FM (T-3), 0 to 150 degC, Pb-Free; Manufacturer: Linear Technology; PartNumber: LT1085CT#PBF; Discrete Pass Element: no; Dropout Voltage(V): 1.3; Iout(mA): 3000; Isupply(mA): 5; Number of Outputs: 1; Output Voltage: Adj; PSRR(dB): 75; Vin Max(V): 30; Vin Min(V): 2.55; Vout Max(V): 28.5; Vout Min(V): 1.25; DatasheetVersion: Rev. G; PackageVersion: Jun-10; PackageReference: T-3; PackageDescription: 3-Pin Plastic TO-220, Body 10.2235 x 4.3815 mm, Pitch 2.54 mm; Supplier 1: Digi-Key; Supplier Part Number 1: LT1085CT#PBF-ND; Supplier 2: Farnell; Supplier Part Number 2: 9559809; Supplier 3: Farnell; Supplier Part Number 3: 1523871; Supplier 4: Newark; Supplier Part Number 4: 57M1522; RoHS: TRUE; Mounting Technology: Through Hole; ComponentLink1Description: Manufacturer URL; ComponentLink1URL: http://www.linear.com/; ComponentLink2Description: Datasheet; ComponentLink2URL: http://cds.linear.com/docs/en/datasheet/108345fg.pdf; ComponentLink3Description: Package Specification; ComponentLink3URL: http://cds.linear.com/docs/en/packaging/TO-220_3_05-08-1420.pdf
footprint LT-T-3 (T, 3-Leads, Body 10.55x4.6mm, Pitch 2.54mm)
pins: 1 ADJ (in), 2 VOUT (power), 3 VIN (power)

## LT1085CT-3.3
designator U?
3 A Low Dropout Positive Regulator, 4.3 to 25 V Vin, 3.3 V Vout, 3-pin FM (T-3), 0 to 150 degC; Manufacturer: Linear Technology; PartNumber: LT1085CT-3.3; Discrete Pass Element: no; Dropout Voltage(V): 1.3; Iout(mA): 3000; Isupply(mA): 5; Number of Outputs: 1; Output Voltage: 3.3 V; PSRR(dB): 72; Vin Max(V): 25; Vin Min(V): 4.3; DatasheetVersion: Rev. D; PackageVersion: Jun-10; PackageReference: T-3; PackageDescription: 3-Pin Plastic TO-220, Body 10.2235 x 4.3815 mm, Pitch 2.54 mm; Supplier 1: Digi-Key; Supplier Part Number 1: LT1085CT-3.3-ND; Supplier 2: Newark; Supplier Part Number 2: 57M1516; RoHS: FALSE; Mounting Technology: Through Hole; ComponentLink1Description: Manufacturer URL; ComponentLink1URL: http://www.linear.com/; ComponentLink2Description: Datasheet; ComponentLink2URL: http://cds.linear.com/docs/en/datasheet/1083ffd.pdf; ComponentLink3Description: Package Specification; ComponentLink3URL: http://cds.linear.com/docs/en/packaging/TO-220_3_05-08-1420.pdf
footprint LT-T-3 (T, 3-Leads, Body 10.55x4.6mm, Pitch 2.54mm)
pins: 1 GND (power), 2 VOUT (power), 3 VIN (power)

## LT1085CT-3.3#PBF
designator U?
3 A Low Dropout Positive Regulator, 4.3 to 25 V Vin, 3.3 V Vout, 3-pin FM (T-3), 0 to 150 degC, Pb-Free; Manufacturer: Linear Technology; PartNumber: LT1085CT-3.3#PBF; Discrete Pass Element: no; Dropout Voltage(V): 1.3; Iout(mA): 3000; Isupply(mA): 5; Number of Outputs: 1; Output Voltage: 3.3 V; PSRR(dB): 72; Vin Max(V): 25; Vin Min(V): 4.3; DatasheetVersion: Rev. D; PackageVersion: Jun-10; PackageReference: T-3; PackageDescription: 3-Pin Plastic TO-220, Body 10.2235 x 4.3815 mm, Pitch 2.54 mm; Supplier 1: Digi-Key; Supplier Part Number 1: LT1085CT-3.3#PBF-ND; Supplier 2: Farnell; Supplier Part Number 2: 1663350; Supplier 3: Newark; Supplier Part Number 3: 57M1517; RoHS: TRUE; Mounting Technology: Through Hole; ComponentLink1Description: Manufacturer URL; ComponentLink1URL: http://www.linear.com/; ComponentLink2Description: Datasheet; ComponentLink2URL: http://cds.linear.com/docs/en/datasheet/1083ffd.pdf; ComponentLink3Description: Package Specification; ComponentLink3URL: http://cds.linear.com/docs/en/packaging/TO-220_3_05-08-1420.pdf
footprint LT-T-3 (T, 3-Leads, Body 10.55x4.6mm, Pitch 2.54mm)
pins: 1 GND (power), 2 VOUT (power), 3 VIN (power)

## LT1085CT-3.6
designator U?
3 A Low Dropout Positive Regulator, 4.3 to 25 V Vin, 3.6 V Vout, 3-pin FM (T-3), 0 to 150 degC; Manufacturer: Linear Technology; PartNumber: LT1085CT-3.6; Discrete Pass Element: no; Dropout Voltage(V): 1.3; Iout(mA): 3000; Isupply(mA): 5; Number of Outputs: 1; Output Voltage: 3.6 V; PSRR(dB): 72; Vin Max(V): 25; Vin Min(V): 4.3; DatasheetVersion: Rev. D; PackageVersion: Jun-10; PackageReference: T-3; PackageDescription: 3-Pin Plastic TO-220, Body 10.2235 x 4.3815 mm, Pitch 2.54 mm; Supplier 1: Digi-Key; Supplier Part Number 1: LT1085CT-3.6-ND; RoHS: FALSE; Mounting Technology: Through Hole; ComponentLink1Description: Manufacturer URL; ComponentLink1URL: http://www.linear.com/; ComponentLink2Description: Datasheet; ComponentLink2URL: http://cds.linear.com/docs/en/datasheet/1083ffd.pdf; ComponentLink3Description: Package Specification; ComponentLink3URL: http://cds.linear.com/docs/en/packaging/TO-220_3_05-08-1420.pdf
footprint LT-T-3 (T, 3-Leads, Body 10.55x4.6mm, Pitch 2.54mm)
pins: 1 GND (power), 2 VOUT (power), 3 VIN (power)

## LT1085CT-3.6#PBF
designator U?
3 A Low Dropout Positive Regulator, 4.3 to 25 V Vin, 3.6 V Vout, 3-pin FM (T-3), 0 to 150 degC, Pb-Free; Manufacturer: Linear Technology; PartNumber: LT1085CT-3.6#PBF; Discrete Pass Element: no; Dropout Voltage(V): 1.3; Iout(mA): 3000; Isupply(mA): 5; Number of Outputs: 1; Output Voltage: 3.6 V; PSRR(dB): 72; Vin Max(V): 25; Vin Min(V): 4.3; DatasheetVersion: Rev. D; PackageVersion: Jun-10; PackageReference: T-3; PackageDescription: 3-Pin Plastic TO-220, Body 10.2235 x 4.3815 mm, Pitch 2.54 mm; RoHS: TRUE; Mounting Technology: Through Hole; ComponentLink1Description: Manufacturer URL; ComponentLink1URL: http://www.linear.com/; ComponentLink2Description: Datasheet; ComponentLink2URL: http://cds.linear.com/docs/en/datasheet/1083ffd.pdf; ComponentLink3Description: Package Specification; ComponentLink3URL: http://cds.linear.com/docs/en/packaging/TO-220_3_05-08-1420.pdf
footprint LT-T-3 (T, 3-Leads, Body 10.55x4.6mm, Pitch 2.54mm)
pins: 1 GND (power), 2 VOUT (power), 3 VIN (power)

## LT1085CT-5
designator U?
3 A Low Dropout Positive Regulator, 4.3 to 25 V Vin, 5 V Vout, 3-pin FM (T-3), 0 to 150 degC; Manufacturer: Linear Technology; PartNumber: LT1085CT-5; Discrete Pass Element: no; Dropout Voltage(V): 1.3; Iout(mA): 3000; Isupply(mA): 5; Number of Outputs: 1; Output Voltage: 5 V; PSRR(dB): 72; Vin Max(V): 25; Vin Min(V): 4.3; DatasheetVersion: Rev. D; PackageVersion: Jun-10; PackageReference: T-3; PackageDescription: 3-Pin Plastic TO-220, Body 10.2235 x 4.3815 mm, Pitch 2.54 mm; Supplier 1: Digi-Key; Supplier Part Number 1: LT1085CT-5-ND; Supplier 2: Newark; Supplier Part Number 2: 57M1520; RoHS: FALSE; Mounting Technology: Through Hole; ComponentLink1Description: Manufacturer URL; ComponentLink1URL: http://www.linear.com/; ComponentLink2Description: Datasheet; ComponentLink2URL: http://cds.linear.com/docs/en/datasheet/1083ffd.pdf; ComponentLink3Description: Package Specification; ComponentLink3URL: http://cds.linear.com/docs/en/packaging/TO-220_3_05-08-1420.pdf
footprint LT-T-3 (T, 3-Leads, Body 10.55x4.6mm, Pitch 2.54mm)
pins: 1 GND (power), 2 VOUT (power), 3 VIN (power)

## LT1085CT-5#PBF
designator U?
3 A Low Dropout Positive Regulator, 4.3 to 25 V Vin, 5 V Vout, 3-pin FM (T-3), 0 to 150 degC, Pb-Free; Manufacturer: Linear Technology; PartNumber: LT1085CT-5#PBF; Discrete Pass Element: no; Dropout Voltage(V): 1.3; Iout(mA): 3000; Isupply(mA): 5; Number of Outputs: 1; Output Voltage: 5 V; PSRR(dB): 72; Vin Max(V): 25; Vin Min(V): 4.3; DatasheetVersion: Rev. D; PackageVersion: Jun-10; PackageReference: T-3; PackageDescription: 3-Pin Plastic TO-220, Body 10.2235 x 4.3815 mm, Pitch 2.54 mm; Supplier 1: Digi-Key; Supplier Part Number 1: LT1085CT-5#PBF-ND; Supplier 2: Farnell; Supplier Part Number 2: 9559841; Supplier 3: Newark; Supplier Part Number 3: 57M1521; RoHS: TRUE; Mounting Technology: Through Hole; ComponentLink1Description: Manufacturer URL; ComponentLink1URL: http://www.linear.com/; ComponentLink2Description: Datasheet; ComponentLink2URL: http://cds.linear.com/docs/en/datasheet/1083ffd.pdf; ComponentLink3Description: Package Specification; ComponentLink3URL: http://cds.linear.com/docs/en/packaging/TO-220_3_05-08-1420.pdf
footprint LT-T-3 (T, 3-Leads, Body 10.55x4.6mm, Pitch 2.54mm)
pins: 1 GND (power), 2 VOUT (power), 3 VIN (power)

## LT1085CT-12
designator U?
3 A Low Dropout Positive Regulator, 4.3 to 25 V Vin, 12 V Vout, 3-pin FM (T-3), 0 to 150 degC; Manufacturer: Linear Technology; PartNumber: LT1085CT-12; Discrete Pass Element: no; Dropout Voltage(V): 1.3; Iout(mA): 3000; Isupply(mA): 5; Number of Outputs: 1; Output Voltage: 12 V; PSRR(dB): 72; Vin Max(V): 25; Vin Min(V): 4.3; DatasheetVersion: Rev. D; PackageVersion: Jun-10; PackageReference: T-3; PackageDescription: 3-Pin Plastic TO-220, Body 10.2235 x 4.3815 mm, Pitch 2.54 mm; Supplier 1: Digi-Key; Supplier Part Number 1: LT1085CT-12-ND; Supplier 2: Newark; Supplier Part Number 2: 57M1514; RoHS: FALSE; Mounting Technology: Through Hole; ComponentLink1Description: Manufacturer URL; ComponentLink1URL: http://www.linear.com/; ComponentLink2Description: Datasheet; ComponentLink2URL: http://cds.linear.com/docs/en/datasheet/1083ffd.pdf; ComponentLink3Description: Package Specification; ComponentLink3URL: http://cds.linear.com/docs/en/packaging/TO-220_3_05-08-1420.pdf
footprint LT-T-3 (T, 3-Leads, Body 10.55x4.6mm, Pitch 2.54mm)
pins: 1 GND (power), 2 VOUT (power), 3 VIN (power)

## LT1085CT-12#PBF
designator U?
3 A Low Dropout Positive Regulator, 4.3 to 25 V Vin, 12 V Vout, 3-pin FM (T-3), 0 to 150 degC, Pb-Free; Manufacturer: Linear Technology; PartNumber: LT1085CT-12#PBF; Discrete Pass Element: no; Dropout Voltage(V): 1.3; Iout(mA): 3000; Isupply(mA): 5; Number of Outputs: 1; Output Voltage: 12 V; PSRR(dB): 72; Vin Max(V): 25; Vin Min(V): 4.3; DatasheetVersion: Rev. D; PackageVersion: Jun-10; PackageReference: T-3; PackageDescription: 3-Pin Plastic TO-220, Body 10.2235 x 4.3815 mm, Pitch 2.54 mm; Supplier 1: Digi-Key; Supplier Part Number 1: LT1085CT-12#PBF-ND; Supplier 2: Farnell; Supplier Part Number 2: 9559825; Supplier 3: Newark; Supplier Part Number 3: 57M1515; RoHS: TRUE; Mounting Technology: Through Hole; ComponentLink1Description: Manufacturer URL; ComponentLink1URL: http://www.linear.com/; ComponentLink2Description: Datasheet; ComponentLink2URL: http://cds.linear.com/docs/en/datasheet/1083ffd.pdf; ComponentLink3Description: Package Specification; ComponentLink3URL: http://cds.linear.com/docs/en/packaging/TO-220_3_05-08-1420.pdf
footprint LT-T-3 (T, 3-Leads, Body 10.55x4.6mm, Pitch 2.54mm)
pins: 1 GND (power), 2 VOUT (power), 3 VIN (power)

## LT1085IM#PBF
designator U?
3 A Low Dropout Positive Regulator, 2.55 to 30 V Vin, Adjustable Vout, 3-pin DPAK (M-3), -40 to 150 degC, Pb-Free; Manufacturer: Linear Technology; PartNumber: LT1085IM#PBF; Discrete Pass Element: no; Dropout Voltage(V): 1.3; Iout(mA): 3000; Isupply(mA): 5; Number of Outputs: 1; Output Voltage: Adj; PSRR(dB): 75; Vin Max(V): 30; Vin Min(V): 2.55; Vout Max(V): 28.5; Vout Min(V): 1.25; DatasheetVersion: Rev. G; PackageVersion: Rev. F, 05/2012; PackageReference: M-3; PackageDescription: 3-Pin Plastic DD Pak, Body 10.2235 x 8.89 mm, Pitch 2.54 mm; Supplier 1: Digi-Key; Supplier Part Number 1: LT1085IM#PBF-ND; Supplier 2: Newark; Supplier Part Number 2: 24R6640; RoHS: TRUE; Mounting Technology: Surface Mount; ComponentLink1Description: Manufacturer URL; ComponentLink1URL: http://www.linear.com/; ComponentLink2Description: Datasheet; ComponentLink2URL: http://cds.linear.com/docs/en/datasheet/108345fg.pdf; ComponentLink3Description: Package Specification; ComponentLink3URL: http://cds.linear.com/docs/en/packaging/05081460_F_M.pdf
footprint LT-M-3_N (DPAK, 3-Leads, Body 10.55x9.4mm, Pitch 2.54mm, IPC Medium Density)
footprint LT-M-3_L (DPAK, 3-Leads, Body 10.55x9.4mm, Pitch 2.54mm, IPC High Density)
footprint LT-M-3_M (DPAK, 3-Leads, Body 10.55x9.4mm, Pitch 2.54mm, IPC Low Density)
pins: 1 ADJ (in), 2 VOUT (power), 3 VIN (power), 4 OUT (power)

## LT1085IM#TRPBF
designator U?
3 A Low Dropout Positive Regulator, 2.55 to 30 V Vin, Adjustable Vout, 3-pin DPAK (M-3), -40 to 150 degC, Pb-Free, Tape and Reel; Manufacturer: Linear Technology; PartNumber: LT1085IM#TRPBF; Discrete Pass Element: no; Dropout Voltage(V): 1.3; Iout(mA): 3000; Isupply(mA): 5; Number of Outputs: 1; Output Voltage: Adj; PSRR(dB): 75; Vin Max(V): 30; Vin Min(V): 2.55; Vout Max(V): 28.5; Vout Min(V): 1.25; DatasheetVersion: Rev. G; PackageVersion: Rev. F, 05/2012; PackageReference: M-3; PackageDescription: 3-Pin Plastic DD Pak, Body 10.2235 x 8.89 mm, Pitch 2.54 mm; Supplier 1: Digi-Key; Supplier Part Number 1: LT1085IM#TRPBF-ND; Supplier 2: Newark; Supplier Part Number 2: 24R6641; Packing: Tape and Reel; RoHS: TRUE; Mounting Technology: Surface Mount; ComponentLink1Description: Manufacturer URL; ComponentLink1URL: http://www.linear.com/; ComponentLink2Description: Datasheet; ComponentLink2URL: http://cds.linear.com/docs/en/datasheet/108345fg.pdf; ComponentLink3Description: Package Specification; ComponentLink3URL: http://cds.linear.com/docs/en/packaging/05081460_F_M.pdf
footprint LT-M-3_N (DPAK, 3-Leads, Body 10.55x9.4mm, Pitch 2.54mm, IPC Medium Density)
footprint LT-M-3_L (DPAK, 3-Leads, Body 10.55x9.4mm, Pitch 2.54mm, IPC High Density)
footprint LT-M-3_M (DPAK, 3-Leads, Body 10.55x9.4mm, Pitch 2.54mm, IPC Low Density)
pins: 1 ADJ (in), 2 VOUT (power), 3 VIN (power), 4 OUT (power)

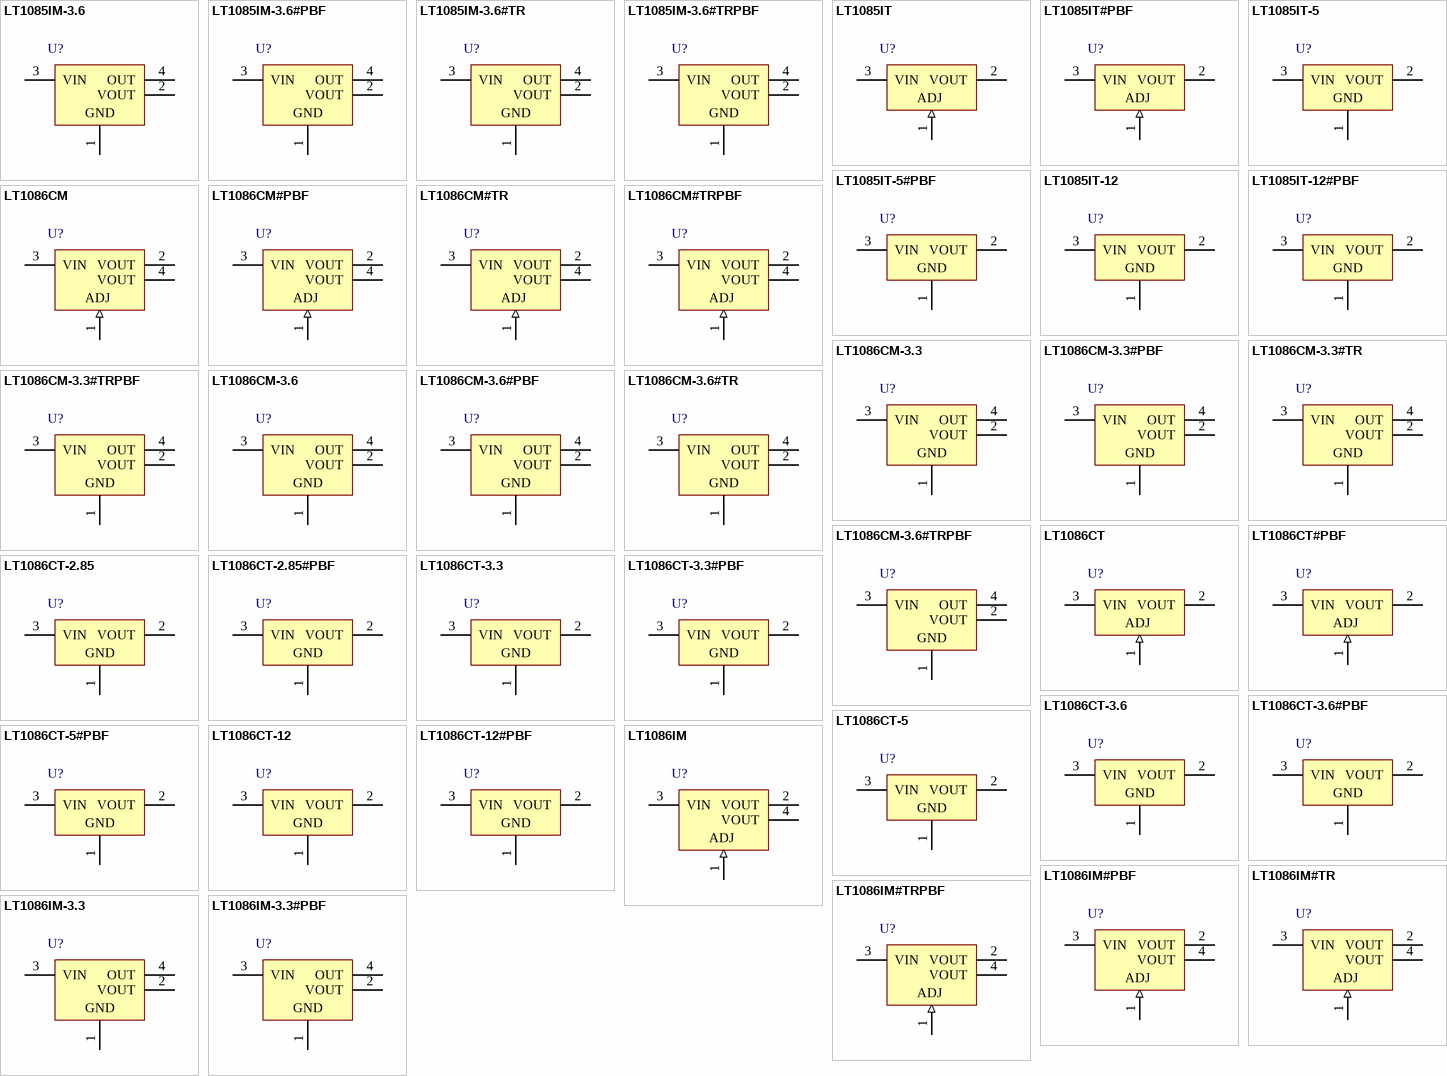
[diagram p1: symbols LT1085IM-3.6 to LT1086IM-3.3#PBF]